# Altium integrated library TI_Logic_Flip-Flop,Latch,Register.IntLib: 2598 symbols (part 19 of 122)
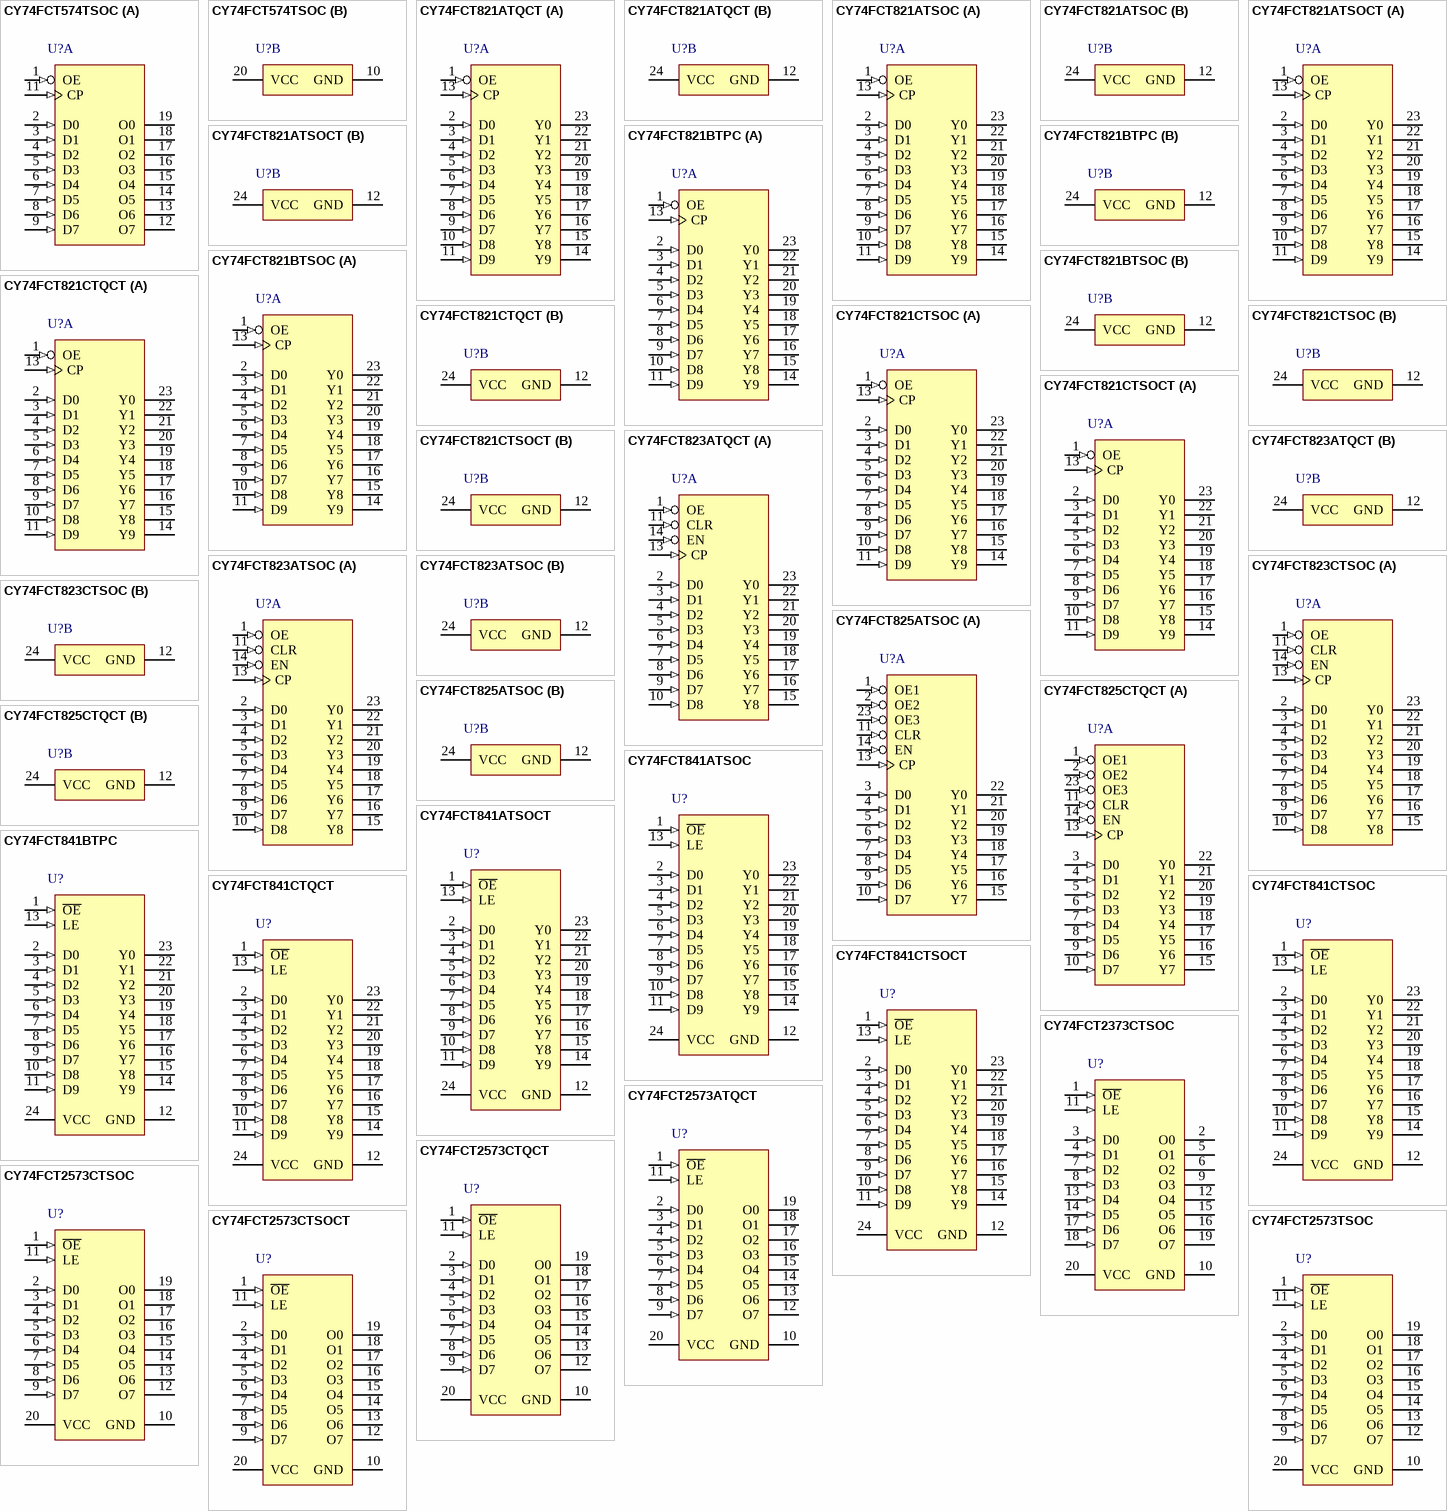
[diagram p157: symbols CY74FCT574TSOC to CY74FCT2573TSOC]

## CY74FCT821ATSOC
designator U?
10-Bit Bus Interface Flip-Flops with 3-State Outputs, DW0024A, TUBE; Generic Part Number: CY74FCT821T; Manufacturer: Texas Instruments; PartNumber: CY74FCT821ATSOC; VCC(Min)(V): 4.75; VCC(Max)(V): 5.25; Output Type: CMOS; ICC @ Nom Voltage(Max)(mA): 0.2; Input Type: TTL; Bits(#): 10; F @ Nom Voltage(Max)(Mhz): 70; Rating: Catalog; Technology Family: FCT; Voltage(Nom)(V): 5; Schmitt Trigger: No; Output Drive (IOL/IOH)(Max)(mA): 64/-32; DatasheetVersion: SCCS033B; PackageReference: DW0024A; Supplier 1: Digi-Key; Supplier Part Number 1: 296-33246-5-ND; Supplier 2: Mouser; Supplier Part Number 2: 595-CY74FCT821ATSOC; Operating Temperature Range(C): -40 to 85; tpd @ Nom Voltage(Max)(ns): 10; Code_JEDEC: MS-013; ComponentLink1Description: Manufacturer URL; ComponentLink1URL: http://www.ti.com/; ComponentLink2Description: Datasheet; ComponentLink2URL: http://www.ti.com/lit/ds/symlink/cy74fct821t.pdf; ComponentLink3Description: Package Specification; ComponentLink3URL: http://www.ti.com/lit/ml/mpds174a/mpds174a.pdf
footprint DW0024A_N (SOIC, 24-Leads, Body 15.6x7.6mm, Pitch 1.27mm, IPC Medium Density)
footprint DW0024A_M (SOIC, 24-Leads, Body 15.6x7.6mm, Pitch 1.27mm, IPC Low Density)
footprint DW0024A_L (SOIC, 24-Leads, Body 15.6x7.6mm, Pitch 1.27mm, IPC High Density)
part A pins: 1 OE (in) "Output control. When O\E\ is high, the Y outputs are in the high-impedance state. When O\E\ is low, true register data is present at the Y outputs.", 2 D0 (in) "D flip-flop data inputs", 3 D1 (in) "D flip-flop data inputs", 4 D2 (in) "D flip-flop data inputs", 5 D3 (in) "D flip-flop data inputs", 6 D4 (in) "D flip-flop data inputs", 7 D5 (in) "D flip-flop data inputs", 8 D6 (in) "D flip-flop data inputs", 9 D7 (in) "D flip-flop data inputs", 10 D8 (in) "D flip-flop data inputs", 11 D9 (in) "D flip-flop data inputs", 13 CP (in) "Clock pulse for the register. Enters data into the register on the low-to-high clock transition.", 14 Y9 (hiz) "Register 3-state outputs", 15 Y8 (hiz) "Register 3-state outputs", 16 Y7 (hiz) "Register 3-state outputs", 17 Y6 (hiz) "Register 3-state outputs", 18 Y5 (hiz) "Register 3-state outputs", 19 Y4 (hiz) "Register 3-state outputs", 20 Y3 (hiz) "Register 3-state outputs", 21 Y2 (hiz) "Register 3-state outputs", 22 Y1 (hiz) "Register 3-state outputs", 23 Y0 (hiz) "Register 3-state outputs"
part B pins: 12 GND (power), 24 VCC (power)

## CY74FCT821ATSOCT
designator U?
10-Bit Bus Interface Flip-Flops with 3-State Outputs, DW0024A, LARGE T&R; Generic Part Number: CY74FCT821T; Manufacturer: Texas Instruments; PartNumber: CY74FCT821ATSOCT; VCC(Min)(V): 4.75; VCC(Max)(V): 5.25; Output Type: CMOS; ICC @ Nom Voltage(Max)(mA): 0.2; Input Type: TTL; Bits(#): 10; F @ Nom Voltage(Max)(Mhz): 70; Rating: Catalog; Technology Family: FCT; Voltage(Nom)(V): 5; Schmitt Trigger: No; Output Drive (IOL/IOH)(Max)(mA): 64/-32; DatasheetVersion: SCCS033B; PackageReference: DW0024A; Supplier 1: Digi-Key; Supplier Part Number 1: CY74FCT821ATSOCT-ND; Supplier 2: Mouser; Supplier Part Number 2: 595-CY74FCT821ATSOCT; Operating Temperature Range(C): -40 to 85; tpd @ Nom Voltage(Max)(ns): 10; Code_JEDEC: MS-013; ComponentLink1Description: Manufacturer URL; ComponentLink1URL: http://www.ti.com/; ComponentLink2Description: Datasheet; ComponentLink2URL: http://www.ti.com/lit/ds/symlink/cy74fct821t.pdf; ComponentLink3Description: Package Specification; ComponentLink3URL: http://www.ti.com/lit/ml/mpds174a/mpds174a.pdf
footprint DW0024A_N (SOIC, 24-Leads, Body 15.6x7.6mm, Pitch 1.27mm, IPC Medium Density)
footprint DW0024A_M (SOIC, 24-Leads, Body 15.6x7.6mm, Pitch 1.27mm, IPC Low Density)
footprint DW0024A_L (SOIC, 24-Leads, Body 15.6x7.6mm, Pitch 1.27mm, IPC High Density)
part A pins: 1 OE (in) "Output control. When O\E\ is high, the Y outputs are in the high-impedance state. When O\E\ is low, true register data is present at the Y outputs.", 2 D0 (in) "D flip-flop data inputs", 3 D1 (in) "D flip-flop data inputs", 4 D2 (in) "D flip-flop data inputs", 5 D3 (in) "D flip-flop data inputs", 6 D4 (in) "D flip-flop data inputs", 7 D5 (in) "D flip-flop data inputs", 8 D6 (in) "D flip-flop data inputs", 9 D7 (in) "D flip-flop data inputs", 10 D8 (in) "D flip-flop data inputs", 11 D9 (in) "D flip-flop data inputs", 13 CP (in) "Clock pulse for the register. Enters data into the register on the low-to-high clock transition.", 14 Y9 (hiz) "Register 3-state outputs", 15 Y8 (hiz) "Register 3-state outputs", 16 Y7 (hiz) "Register 3-state outputs", 17 Y6 (hiz) "Register 3-state outputs", 18 Y5 (hiz) "Register 3-state outputs", 19 Y4 (hiz) "Register 3-state outputs", 20 Y3 (hiz) "Register 3-state outputs", 21 Y2 (hiz) "Register 3-state outputs", 22 Y1 (hiz) "Register 3-state outputs", 23 Y0 (hiz) "Register 3-state outputs"
part B pins: 12 GND (power), 24 VCC (power)

## CY74FCT821BTPC
designator U?
10-Bit Bus Interface Flip-Flops with 3-State Outputs, NT0024A, TUBE; Generic Part Number: CY74FCT821T; Manufacturer: Texas Instruments; PartNumber: CY74FCT821BTPC; VCC(Min)(V): 4.75; VCC(Max)(V): 5.25; Output Type: CMOS; ICC @ Nom Voltage(Max)(mA): 0.2; Input Type: TTL; Bits(#): 10; F @ Nom Voltage(Max)(Mhz): 70; Rating: Catalog; Technology Family: FCT; Voltage(Nom)(V): 5; Schmitt Trigger: No; Output Drive (IOL/IOH)(Max)(mA): 64/-32; tpd @ Nom Voltage(Max)(ns): 7.5; DatasheetVersion: SCCS033B; PackageReference: NT0024A; Supplier 1: Digi-Key; Supplier Part Number 1: 296-14584-5-ND; Supplier 2: Newark; Supplier Part Number 2: 74C9079; Supplier 3: Mouser; Supplier Part Number 3: 595-CY74FCT821BTPC; Operating Temperature Range(C): -40 to 85; ComponentLink1Description: Manufacturer URL; ComponentLink1URL: http://www.ti.com/; ComponentLink2Description: Datasheet; ComponentLink2URL: http://www.ti.com/lit/ds/symlink/cy74fct821t.pdf; ComponentLink3Description: Package Specification; ComponentLink3URL: http://www.ti.com/lit/ml/mpdi004a/mpdi004a.pdf
footprint NT0024A (DIP, 24-Leads, Body 32.05x7.1mm, Pitch 2.54mm)
part A pins: 1 OE (in) "Output control. When O\E\ is high, the Y outputs are in the high-impedance state. When O\E\ is low, true register data is present at the Y outputs.", 2 D0 (in) "D flip-flop data inputs", 3 D1 (in) "D flip-flop data inputs", 4 D2 (in) "D flip-flop data inputs", 5 D3 (in) "D flip-flop data inputs", 6 D4 (in) "D flip-flop data inputs", 7 D5 (in) "D flip-flop data inputs", 8 D6 (in) "D flip-flop data inputs", 9 D7 (in) "D flip-flop data inputs", 10 D8 (in) "D flip-flop data inputs", 11 D9 (in) "D flip-flop data inputs", 13 CP (in) "Clock pulse for the register. Enters data into the register on the low-to-high clock transition.", 14 Y9 (hiz) "Register 3-state outputs", 15 Y8 (hiz) "Register 3-state outputs", 16 Y7 (hiz) "Register 3-state outputs", 17 Y6 (hiz) "Register 3-state outputs", 18 Y5 (hiz) "Register 3-state outputs", 19 Y4 (hiz) "Register 3-state outputs", 20 Y3 (hiz) "Register 3-state outputs", 21 Y2 (hiz) "Register 3-state outputs", 22 Y1 (hiz) "Register 3-state outputs", 23 Y0 (hiz) "Register 3-state outputs"
part B pins: 12 GND (power), 24 VCC (power)

## CY74FCT821BTSOC
designator U?
10-Bit Bus Interface Flip-Flops with 3-State Outputs, DW0024A, TUBE; Generic Part Number: CY74FCT821T; Manufacturer: Texas Instruments; PartNumber: CY74FCT821BTSOC; VCC(Min)(V): 4.75; VCC(Max)(V): 5.25; Output Type: CMOS; ICC @ Nom Voltage(Max)(mA): 0.2; Input Type: TTL; Bits(#): 10; F @ Nom Voltage(Max)(Mhz): 70; Rating: Catalog; Technology Family: FCT; Voltage(Nom)(V): 5; Schmitt Trigger: No; Output Drive (IOL/IOH)(Max)(mA): 64/-32; tpd @ Nom Voltage(Max)(ns): 7.5; DatasheetVersion: SCCS033B; PackageReference: DW0024A; Supplier 1: Digi-Key; Supplier Part Number 1: CY74FCT821BTSOC-ND; Supplier 2: Mouser; Supplier Part Number 2: 595-CY74FCT821BTSOC; Operating Temperature Range(C): -40 to 85; Code_JEDEC: MS-013; ComponentLink1Description: Manufacturer URL; ComponentLink1URL: http://www.ti.com/; ComponentLink2Description: Datasheet; ComponentLink2URL: http://www.ti.com/lit/ds/symlink/cy74fct821t.pdf; ComponentLink3Description: Package Specification; ComponentLink3URL: http://www.ti.com/lit/ml/mpds174a/mpds174a.pdf
footprint DW0024A_N (SOIC, 24-Leads, Body 15.6x7.6mm, Pitch 1.27mm, IPC Medium Density)
footprint DW0024A_M (SOIC, 24-Leads, Body 15.6x7.6mm, Pitch 1.27mm, IPC Low Density)
footprint DW0024A_L (SOIC, 24-Leads, Body 15.6x7.6mm, Pitch 1.27mm, IPC High Density)
part A pins: 1 OE (in) "Output control. When O\E\ is high, the Y outputs are in the high-impedance state. When O\E\ is low, true register data is present at the Y outputs.", 2 D0 (in) "D flip-flop data inputs", 3 D1 (in) "D flip-flop data inputs", 4 D2 (in) "D flip-flop data inputs", 5 D3 (in) "D flip-flop data inputs", 6 D4 (in) "D flip-flop data inputs", 7 D5 (in) "D flip-flop data inputs", 8 D6 (in) "D flip-flop data inputs", 9 D7 (in) "D flip-flop data inputs", 10 D8 (in) "D flip-flop data inputs", 11 D9 (in) "D flip-flop data inputs", 13 CP (in) "Clock pulse for the register. Enters data into the register on the low-to-high clock transition.", 14 Y9 (hiz) "Register 3-state outputs", 15 Y8 (hiz) "Register 3-state outputs", 16 Y7 (hiz) "Register 3-state outputs", 17 Y6 (hiz) "Register 3-state outputs", 18 Y5 (hiz) "Register 3-state outputs", 19 Y4 (hiz) "Register 3-state outputs", 20 Y3 (hiz) "Register 3-state outputs", 21 Y2 (hiz) "Register 3-state outputs", 22 Y1 (hiz) "Register 3-state outputs", 23 Y0 (hiz) "Register 3-state outputs"
part B pins: 12 GND (power), 24 VCC (power)

## CY74FCT821CTQCT
designator U?
10-Bit Bus Interface Flip-Flops with 3-State Outputs, DBQ0024A, LARGE T&R; Generic Part Number: CY74FCT821T; Manufacturer: Texas Instruments; PartNumber: CY74FCT821CTQCT; VCC(Min)(V): 4.75; VCC(Max)(V): 5.25; Output Type: CMOS; ICC @ Nom Voltage(Max)(mA): 0.2; Input Type: TTL; Bits(#): 10; F @ Nom Voltage(Max)(Mhz): 70; Rating: Catalog; Technology Family: FCT; Voltage(Nom)(V): 5; Schmitt Trigger: No; Output Drive (IOL/IOH)(Max)(mA): 64/-32; tpd @ Nom Voltage(Max)(ns): 6; DatasheetVersion: SCCS033B; PackageReference: DBQ0024A; Supplier 1: Digi-Key; Supplier Part Number 1: 296-14585-2-ND; Supplier 2: Digi-Key; Supplier Part Number 2: 296-14585-1-ND; Supplier 3: Digi-Key; Supplier Part Number 3: 296-14585-6-ND; Supplier 4: Mouser; Supplier Part Number 4: 595-CY74FCT821CTQCT; Operating Temperature Range(C): -40 to 85; Code_JEDEC: MO-137; ComponentLink1Description: Manufacturer URL; ComponentLink1URL: http://www.ti.com/; ComponentLink2Description: Datasheet; ComponentLink2URL: http://www.ti.com/lit/ds/symlink/cy74fct821t.pdf; ComponentLink3Description: Package Specification; ComponentLink3URL: http://www.ti.com/lit/ml/mpds211a/mpds211a.pdf
footprint DBQ0024A_N (SOP, 24-Leads, Body 8.8x4mm, Pitch 0.635mm, IPC Medium Density)
footprint DBQ0024A_M (SOP, 24-Leads, Body 8.8x4mm, Pitch 0.635mm, IPC Low Density)
footprint DBQ0024A_L (SOP, 24-Leads, Body 8.8x4mm, Pitch 0.635mm, IPC High Density)
part A pins: 1 OE (in) "Output control. When O\E\ is high, the Y outputs are in the high-impedance state. When O\E\ is low, true register data is present at the Y outputs.", 2 D0 (in) "D flip-flop data inputs", 3 D1 (in) "D flip-flop data inputs", 4 D2 (in) "D flip-flop data inputs", 5 D3 (in) "D flip-flop data inputs", 6 D4 (in) "D flip-flop data inputs", 7 D5 (in) "D flip-flop data inputs", 8 D6 (in) "D flip-flop data inputs", 9 D7 (in) "D flip-flop data inputs", 10 D8 (in) "D flip-flop data inputs", 11 D9 (in) "D flip-flop data inputs", 13 CP (in) "Clock pulse for the register. Enters data into the register on the low-to-high clock transition.", 14 Y9 (hiz) "Register 3-state outputs", 15 Y8 (hiz) "Register 3-state outputs", 16 Y7 (hiz) "Register 3-state outputs", 17 Y6 (hiz) "Register 3-state outputs", 18 Y5 (hiz) "Register 3-state outputs", 19 Y4 (hiz) "Register 3-state outputs", 20 Y3 (hiz) "Register 3-state outputs", 21 Y2 (hiz) "Register 3-state outputs", 22 Y1 (hiz) "Register 3-state outputs", 23 Y0 (hiz) "Register 3-state outputs"
part B pins: 12 GND (power), 24 VCC (power)

## CY74FCT821CTSOC
designator U?
10-Bit Bus Interface Flip-Flops with 3-State Outputs, DW0024A, TUBE; Generic Part Number: CY74FCT821T; Manufacturer: Texas Instruments; PartNumber: CY74FCT821CTSOC; VCC(Min)(V): 4.75; VCC(Max)(V): 5.25; Output Type: CMOS; ICC @ Nom Voltage(Max)(mA): 0.2; Input Type: TTL; Bits(#): 10; F @ Nom Voltage(Max)(Mhz): 70; Rating: Catalog; Technology Family: FCT; Voltage(Nom)(V): 5; Schmitt Trigger: No; Output Drive (IOL/IOH)(Max)(mA): 64/-32; tpd @ Nom Voltage(Max)(ns): 6; DatasheetVersion: SCCS033B; PackageReference: DW0024A; Supplier 1: Digi-Key; Supplier Part Number 1: CY74FCT821CTSOC-ND; Supplier 2: Newark; Supplier Part Number 2: 74C9083; Supplier 3: Mouser; Supplier Part Number 3: 595-CY74FCT821CTSOC; Operating Temperature Range(C): -40 to 85; Code_JEDEC: MS-013; ComponentLink1Description: Manufacturer URL; ComponentLink1URL: http://www.ti.com/; ComponentLink2Description: Datasheet; ComponentLink2URL: http://www.ti.com/lit/ds/symlink/cy74fct821t.pdf; ComponentLink3Description: Package Specification; ComponentLink3URL: http://www.ti.com/lit/ml/mpds174a/mpds174a.pdf
footprint DW0024A_N (SOIC, 24-Leads, Body 15.6x7.6mm, Pitch 1.27mm, IPC Medium Density)
footprint DW0024A_M (SOIC, 24-Leads, Body 15.6x7.6mm, Pitch 1.27mm, IPC Low Density)
footprint DW0024A_L (SOIC, 24-Leads, Body 15.6x7.6mm, Pitch 1.27mm, IPC High Density)
part A pins: 1 OE (in) "Output control. When O\E\ is high, the Y outputs are in the high-impedance state. When O\E\ is low, true register data is present at the Y outputs.", 2 D0 (in) "D flip-flop data inputs", 3 D1 (in) "D flip-flop data inputs", 4 D2 (in) "D flip-flop data inputs", 5 D3 (in) "D flip-flop data inputs", 6 D4 (in) "D flip-flop data inputs", 7 D5 (in) "D flip-flop data inputs", 8 D6 (in) "D flip-flop data inputs", 9 D7 (in) "D flip-flop data inputs", 10 D8 (in) "D flip-flop data inputs", 11 D9 (in) "D flip-flop data inputs", 13 CP (in) "Clock pulse for the register. Enters data into the register on the low-to-high clock transition.", 14 Y9 (hiz) "Register 3-state outputs", 15 Y8 (hiz) "Register 3-state outputs", 16 Y7 (hiz) "Register 3-state outputs", 17 Y6 (hiz) "Register 3-state outputs", 18 Y5 (hiz) "Register 3-state outputs", 19 Y4 (hiz) "Register 3-state outputs", 20 Y3 (hiz) "Register 3-state outputs", 21 Y2 (hiz) "Register 3-state outputs", 22 Y1 (hiz) "Register 3-state outputs", 23 Y0 (hiz) "Register 3-state outputs"
part B pins: 12 GND (power), 24 VCC (power)

## CY74FCT821CTSOCT
designator U?
10-Bit Bus Interface Flip-Flops with 3-State Outputs, DW0024A, LARGE T&R; Generic Part Number: CY74FCT821T; Manufacturer: Texas Instruments; PartNumber: CY74FCT821CTSOCT; VCC(Min)(V): 4.75; VCC(Max)(V): 5.25; Output Type: CMOS; ICC @ Nom Voltage(Max)(mA): 0.2; Input Type: TTL; Bits(#): 10; F @ Nom Voltage(Max)(Mhz): 70; Rating: Catalog; Technology Family: FCT; Voltage(Nom)(V): 5; Schmitt Trigger: No; Output Drive (IOL/IOH)(Max)(mA): 64/-32; tpd @ Nom Voltage(Max)(ns): 6; DatasheetVersion: SCCS033B; PackageReference: DW0024A; Supplier 1: Digi-Key; Supplier Part Number 1: CY74FCT821CTSOCT-ND; Supplier 2: Mouser; Supplier Part Number 2: 595-CY74FCT821CTSOCT; Operating Temperature Range(C): -40 to 85; Code_JEDEC: MS-013; ComponentLink1Description: Manufacturer URL; ComponentLink1URL: http://www.ti.com/; ComponentLink2Description: Datasheet; ComponentLink2URL: http://www.ti.com/lit/ds/symlink/cy74fct821t.pdf; ComponentLink3Description: Package Specification; ComponentLink3URL: http://www.ti.com/lit/ml/mpds174a/mpds174a.pdf
footprint DW0024A_N (SOIC, 24-Leads, Body 15.6x7.6mm, Pitch 1.27mm, IPC Medium Density)
footprint DW0024A_M (SOIC, 24-Leads, Body 15.6x7.6mm, Pitch 1.27mm, IPC Low Density)
footprint DW0024A_L (SOIC, 24-Leads, Body 15.6x7.6mm, Pitch 1.27mm, IPC High Density)
part A pins: 1 OE (in) "Output control. When O\E\ is high, the Y outputs are in the high-impedance state. When O\E\ is low, true register data is present at the Y outputs.", 2 D0 (in) "D flip-flop data inputs", 3 D1 (in) "D flip-flop data inputs", 4 D2 (in) "D flip-flop data inputs", 5 D3 (in) "D flip-flop data inputs", 6 D4 (in) "D flip-flop data inputs", 7 D5 (in) "D flip-flop data inputs", 8 D6 (in) "D flip-flop data inputs", 9 D7 (in) "D flip-flop data inputs", 10 D8 (in) "D flip-flop data inputs", 11 D9 (in) "D flip-flop data inputs", 13 CP (in) "Clock pulse for the register. Enters data into the register on the low-to-high clock transition.", 14 Y9 (hiz) "Register 3-state outputs", 15 Y8 (hiz) "Register 3-state outputs", 16 Y7 (hiz) "Register 3-state outputs", 17 Y6 (hiz) "Register 3-state outputs", 18 Y5 (hiz) "Register 3-state outputs", 19 Y4 (hiz) "Register 3-state outputs", 20 Y3 (hiz) "Register 3-state outputs", 21 Y2 (hiz) "Register 3-state outputs", 22 Y1 (hiz) "Register 3-state outputs", 23 Y0 (hiz) "Register 3-state outputs"
part B pins: 12 GND (power), 24 VCC (power)

## CY74FCT823ATQCT
designator U?
9-Bit Bus Interface Flip-Flops with 3-State Outputs, DBQ0024A, LARGE T&R; Generic Part Number: CY74FCT823T; Manufacturer: Texas Instruments; PartNumber: CY74FCT823ATQCT; VCC(Min)(V): 4.75; VCC(Max)(V): 5.25; Output Type: CMOS; ICC @ Nom Voltage(Max)(mA): 0.2; Input Type: TTL; Bits(#): 9; F @ Nom Voltage(Max)(Mhz): 70; Rating: Catalog; Technology Family: FCT; Voltage(Nom)(V): 5; Schmitt Trigger: No; Output Drive (IOL/IOH)(Max)(mA): 64/-32; tpd @ Nom Voltage(Max)(ns): 10; DatasheetVersion: SCCS069A; PackageReference: DBQ0024A; Supplier 1: Digi-Key; Supplier Part Number 1: 296-38081-2-ND; Supplier 2: Digi-Key; Supplier Part Number 2: 296-38081-1-ND; Supplier 3: Digi-Key; Supplier Part Number 3: 296-38081-6-ND; Supplier 4: Mouser; Supplier Part Number 4: 595-CY74FCT823ATQCT; Operating Temperature Range(C): -40 to 85; Code_JEDEC: MO-137; ComponentLink1Description: Manufacturer URL; ComponentLink1URL: http://www.ti.com/; ComponentLink2Description: Datasheet; ComponentLink2URL: http://www.ti.com/lit/ds/symlink/cy74fct823t.pdf; ComponentLink3Description: Package Specification; ComponentLink3URL: http://www.ti.com/lit/ml/mpds211a/mpds211a.pdf
footprint DBQ0024A_N (SOP, 24-Leads, Body 8.8x4mm, Pitch 0.635mm, IPC Medium Density)
footprint DBQ0024A_M (SOP, 24-Leads, Body 8.8x4mm, Pitch 0.635mm, IPC Low Density)
footprint DBQ0024A_L (SOP, 24-Leads, Body 8.8x4mm, Pitch 0.635mm, IPC High Density)
part A pins: 1 OE (in) "Output control. When O\E\ is high, the Y outputs are in the high-impedance state. When O\E\ is low, true register data is present at the Y outputs.", 2 D0 (in) "D flip-flop data inputs", 3 D1 (in) "D flip-flop data inputs", 4 D2 (in) "D flip-flop data inputs", 5 D3 (in) "D flip-flop data inputs", 6 D4 (in) "D flip-flop data inputs", 7 D5 (in) "D flip-flop data inputs", 8 D6 (in) "D flip-flop data inputs", 9 D7 (in) "D flip-flop data inputs", 10 D8 (in) "D flip-flop data inputs", 11 CLR (in) "When C\L\R\ is low and O\E\ is low, Q outputs are low. When C\L\R\ is high, data can be entered into the register.", 13 CP (in) "Clock pulse for the register. Enters data into the register on the low-to-high clock transition.", 14 EN (in) "Clock enable. When E\N\ is low, data on the D input is transferred to the Q output on the low-to-high clock transition. When E\N\ is high, the Q outputs do not change state, regardless of the data or clock input transitions.", 15 Y8 (hiz) "Register 3-state outputs", 16 Y7 (hiz) "Register 3-state outputs", 17 Y6 (hiz) "Register 3-state outputs", 18 Y5 (hiz) "Register 3-state outputs", 19 Y4 (hiz) "Register 3-state outputs", 20 Y3 (hiz) "Register 3-state outputs", 21 Y2 (hiz) "Register 3-state outputs", 22 Y1 (hiz) "Register 3-state outputs", 23 Y0 (hiz) "Register 3-state outputs"
part B pins: 12 GND (power), 24 VCC (power)

## CY74FCT823ATSOC
designator U?
9-Bit Bus Interface Flip-Flops with 3-State Outputs, DW0024A, TUBE; Generic Part Number: CY74FCT823T; Manufacturer: Texas Instruments; PartNumber: CY74FCT823ATSOC; VCC(Min)(V): 4.75; VCC(Max)(V): 5.25; Output Type: CMOS; ICC @ Nom Voltage(Max)(mA): 0.2; Input Type: TTL; Bits(#): 9; F @ Nom Voltage(Max)(Mhz): 70; Rating: Catalog; Technology Family: FCT; Voltage(Nom)(V): 5; Schmitt Trigger: No; Output Drive (IOL/IOH)(Max)(mA): 64/-32; tpd @ Nom Voltage(Max)(ns): 10; DatasheetVersion: SCCS069A; PackageReference: DW0024A; Supplier 1: Digi-Key; Supplier Part Number 1: CY74FCT823ATSOC-ND; Supplier 2: Farnell; Supplier Part Number 2: 1741089; Supplier 3: Mouser; Supplier Part Number 3: 595-CY74FCT823ATSOC; Operating Temperature Range(C): -40 to 85; Code_JEDEC: MS-013; ComponentLink1Description: Manufacturer URL; ComponentLink1URL: http://www.ti.com/; ComponentLink2Description: Datasheet; ComponentLink2URL: http://www.ti.com/lit/ds/symlink/cy74fct823t.pdf; ComponentLink3Description: Package Specification; ComponentLink3URL: http://www.ti.com/lit/ml/mpds174a/mpds174a.pdf
footprint DW0024A_N (SOIC, 24-Leads, Body 15.6x7.6mm, Pitch 1.27mm, IPC Medium Density)
footprint DW0024A_M (SOIC, 24-Leads, Body 15.6x7.6mm, Pitch 1.27mm, IPC Low Density)
footprint DW0024A_L (SOIC, 24-Leads, Body 15.6x7.6mm, Pitch 1.27mm, IPC High Density)
part A pins: 1 OE (in) "Output control. When O\E\ is high, the Y outputs are in the high-impedance state. When O\E\ is low, true register data is present at the Y outputs.", 2 D0 (in) "D flip-flop data inputs", 3 D1 (in) "D flip-flop data inputs", 4 D2 (in) "D flip-flop data inputs", 5 D3 (in) "D flip-flop data inputs", 6 D4 (in) "D flip-flop data inputs", 7 D5 (in) "D flip-flop data inputs", 8 D6 (in) "D flip-flop data inputs", 9 D7 (in) "D flip-flop data inputs", 10 D8 (in) "D flip-flop data inputs", 11 CLR (in) "When C\L\R\ is low and O\E\ is low, Q outputs are low. When C\L\R\ is high, data can be entered into the register.", 13 CP (in) "Clock pulse for the register. Enters data into the register on the low-to-high clock transition.", 14 EN (in) "Clock enable. When E\N\ is low, data on the D input is transferred to the Q output on the low-to-high clock transition. When E\N\ is high, the Q outputs do not change state, regardless of the data or clock input transitions.", 15 Y8 (hiz) "Register 3-state outputs", 16 Y7 (hiz) "Register 3-state outputs", 17 Y6 (hiz) "Register 3-state outputs", 18 Y5 (hiz) "Register 3-state outputs", 19 Y4 (hiz) "Register 3-state outputs", 20 Y3 (hiz) "Register 3-state outputs", 21 Y2 (hiz) "Register 3-state outputs", 22 Y1 (hiz) "Register 3-state outputs", 23 Y0 (hiz) "Register 3-state outputs"
part B pins: 12 GND (power), 24 VCC (power)

## CY74FCT823CTSOC
designator U?
9-Bit Bus Interface Flip-Flops with 3-State Outputs, DW0024A, TUBE; Generic Part Number: CY74FCT823T; Manufacturer: Texas Instruments; PartNumber: CY74FCT823CTSOC; VCC(Min)(V): 4.75; VCC(Max)(V): 5.25; Output Type: CMOS; ICC @ Nom Voltage(Max)(mA): 0.2; Input Type: TTL; Bits(#): 9; F @ Nom Voltage(Max)(Mhz): 70; Rating: Catalog; Technology Family: FCT; Voltage(Nom)(V): 5; Schmitt Trigger: No; Output Drive (IOL/IOH)(Max)(mA): 64/-32; tpd @ Nom Voltage(Max)(ns): 6; DatasheetVersion: SCCS069A; PackageReference: DW0024A; Supplier 1: Digi-Key; Supplier Part Number 1: CY74FCT823CTSOC-ND; Supplier 2: Mouser; Supplier Part Number 2: 595-CY74FCT823CTSOC; Operating Temperature Range(C): -40 to 85; Code_JEDEC: MS-013; ComponentLink1Description: Manufacturer URL; ComponentLink1URL: http://www.ti.com/; ComponentLink2Description: Datasheet; ComponentLink2URL: http://www.ti.com/lit/ds/symlink/cy74fct823t.pdf; ComponentLink3Description: Package Specification; ComponentLink3URL: http://www.ti.com/lit/ml/mpds174a/mpds174a.pdf
footprint DW0024A_N (SOIC, 24-Leads, Body 15.6x7.6mm, Pitch 1.27mm, IPC Medium Density)
footprint DW0024A_M (SOIC, 24-Leads, Body 15.6x7.6mm, Pitch 1.27mm, IPC Low Density)
footprint DW0024A_L (SOIC, 24-Leads, Body 15.6x7.6mm, Pitch 1.27mm, IPC High Density)
part A pins: 1 OE (in) "Output control. When O\E\ is high, the Y outputs are in the high-impedance state. When O\E\ is low, true register data is present at the Y outputs.", 2 D0 (in) "D flip-flop data inputs", 3 D1 (in) "D flip-flop data inputs", 4 D2 (in) "D flip-flop data inputs", 5 D3 (in) "D flip-flop data inputs", 6 D4 (in) "D flip-flop data inputs", 7 D5 (in) "D flip-flop data inputs", 8 D6 (in) "D flip-flop data inputs", 9 D7 (in) "D flip-flop data inputs", 10 D8 (in) "D flip-flop data inputs", 11 CLR (in) "When C\L\R\ is low and O\E\ is low, Q outputs are low. When C\L\R\ is high, data can be entered into the register.", 13 CP (in) "Clock pulse for the register. Enters data into the register on the low-to-high clock transition.", 14 EN (in) "Clock enable. When E\N\ is low, data on the D input is transferred to the Q output on the low-to-high clock transition. When E\N\ is high, the Q outputs do not change state, regardless of the data or clock input transitions.", 15 Y8 (hiz) "Register 3-state outputs", 16 Y7 (hiz) "Register 3-state outputs", 17 Y6 (hiz) "Register 3-state outputs", 18 Y5 (hiz) "Register 3-state outputs", 19 Y4 (hiz) "Register 3-state outputs", 20 Y3 (hiz) "Register 3-state outputs", 21 Y2 (hiz) "Register 3-state outputs", 22 Y1 (hiz) "Register 3-state outputs", 23 Y0 (hiz) "Register 3-state outputs"
part B pins: 12 GND (power), 24 VCC (power)

## CY74FCT825ATSOC
designator U?
8-Bit Bus Interface Flip-Flops with 3-State Outputs, DW0024A, TUBE; Generic Part Number: CY74FCT825T; Manufacturer: Texas Instruments; PartNumber: CY74FCT825ATSOC; DatasheetVersion: SCCS070A; PackageReference: DW0024A; Supplier 1: Digi-Key; Supplier Part Number 1: 296-33247-5-ND; Supplier 2: Mouser; Supplier Part Number 2: 595-CY74FCT825ATSOC; Code_JEDEC: MS-013; ComponentLink1Description: Manufacturer URL; ComponentLink1URL: http://www.ti.com/; ComponentLink2Description: Datasheet; ComponentLink2URL: http://www.ti.com/lit/ds/symlink/cy74fct825t.pdf; ComponentLink3Description: Package Specification; ComponentLink3URL: http://www.ti.com/lit/ml/mpds174a/mpds174a.pdf
footprint DW0024A_N (SOIC, 24-Leads, Body 15.6x7.6mm, Pitch 1.27mm, IPC Medium Density)
footprint DW0024A_M (SOIC, 24-Leads, Body 15.6x7.6mm, Pitch 1.27mm, IPC Low Density)
footprint DW0024A_L (SOIC, 24-Leads, Body 15.6x7.6mm, Pitch 1.27mm, IPC High Density)
part A pins: 1 OE1 (in) "Output control. When O\E\ is high, the Y outputs are in the high-impedance state. When O\E\ is low, true register data is present at the Y outputs.", 2 OE2 (in) "Output control. When O\E\ is high, the Y outputs are in the high-impedance state. When O\E\ is low, true register data is present at the Y outputs.", 3 D0 (in) "D flip-flop data inputs", 4 D1 (in) "D flip-flop data inputs", 5 D2 (in) "D flip-flop data inputs", 6 D3 (in) "D flip-flop data inputs", 7 D4 (in) "D flip-flop data inputs", 8 D5 (in) "D flip-flop data inputs", 9 D6 (in) "D flip-flop data inputs", 10 D7 (in) "D flip-flop data inputs", 11 CLR (in) "When C\L\R\ is low and O\E\ is low, Q outputs are low. When C\L\R\ is high, data can be entered into the register", 13 CP (in) "Clock pulse for the register. Enters data into the register on the low-to-high clock transition.", 14 EN (in) "Clock enable. When E\N\ is low, data on the D input is transferred to the Q output on the low-to-high clock transition. When E\N\ is high, the Q outputs do not change state, regardless of the data or clock input transitions.", 15 Y7 (hiz) "Register 3-state outputs", 16 Y6 (hiz) "Register 3-state outputs", 17 Y5 (hiz) "Register 3-state outputs", 18 Y4 (hiz) "Register 3-state outputs", 19 Y3 (hiz) "Register 3-state outputs", 20 Y2 (hiz) "Register 3-state outputs", 21 Y1 (hiz) "Register 3-state outputs", 22 Y0 (hiz) "Register 3-state outputs", 23 OE3 (in) "Output control. When O\E\ is high, the Y outputs are in the high-impedance state. When O\E\ is low, true register data is present at the Y outputs."
part B pins: 12 GND (power), 24 VCC (power)

## CY74FCT825CTQCT
designator U?
8-Bit Bus Interface Flip-Flops with 3-State Outputs, DBQ0024A, LARGE T&R; Generic Part Number: CY74FCT825T; Manufacturer: Texas Instruments; PartNumber: CY74FCT825CTQCT; VCC(Min)(V): 4.75; VCC(Max)(V): 5.25; Output Type: CMOS; ICC @ Nom Voltage(Max)(mA): 0.2; Input Type: TTL; Bits(#): 8; F @ Nom Voltage(Max)(Mhz): 70; Rating: Catalog; Technology Family: FCT; Voltage(Nom)(V): 5; Schmitt Trigger: No; Output Drive (IOL/IOH)(Max)(mA): 64/-32; tpd @ Nom Voltage(Max)(ns): 6; DatasheetVersion: SCCS070A; PackageReference: DBQ0024A; Supplier 1: Digi-Key; Supplier Part Number 1: 296-29571-2-ND; Supplier 2: Digi-Key; Supplier Part Number 2: 296-29571-1-ND; Supplier 3: Digi-Key; Supplier Part Number 3: 296-29571-6-ND; Supplier 4: Mouser; Supplier Part Number 4: 595-CY74FCT825CTQCT; Operating Temperature Range(C): -40 to 85; Code_JEDEC: MO-137; ComponentLink1Description: Manufacturer URL; ComponentLink1URL: http://www.ti.com/; ComponentLink2Description: Datasheet; ComponentLink2URL: http://www.ti.com/lit/ds/symlink/cy74fct825t.pdf; ComponentLink3Description: Package Specification; ComponentLink3URL: http://www.ti.com/lit/ml/mpds211a/mpds211a.pdf
footprint DBQ0024A_N (SOP, 24-Leads, Body 8.8x4mm, Pitch 0.635mm, IPC Medium Density)
footprint DBQ0024A_M (SOP, 24-Leads, Body 8.8x4mm, Pitch 0.635mm, IPC Low Density)
footprint DBQ0024A_L (SOP, 24-Leads, Body 8.8x4mm, Pitch 0.635mm, IPC High Density)
part A pins: 1 OE1 (in) "Output control. When O\E\ is high, the Y outputs are in the high-impedance state. When O\E\ is low, true register data is present at the Y outputs.", 2 OE2 (in) "Output control. When O\E\ is high, the Y outputs are in the high-impedance state. When O\E\ is low, true register data is present at the Y outputs.", 3 D0 (in) "D flip-flop data inputs", 4 D1 (in) "D flip-flop data inputs", 5 D2 (in) "D flip-flop data inputs", 6 D3 (in) "D flip-flop data inputs", 7 D4 (in) "D flip-flop data inputs", 8 D5 (in) "D flip-flop data inputs", 9 D6 (in) "D flip-flop data inputs", 10 D7 (in) "D flip-flop data inputs", 11 CLR (in) "When C\L\R\ is low and O\E\ is low, Q outputs are low. When C\L\R\ is high, data can be entered into the register", 13 CP (in) "Clock pulse for the register. Enters data into the register on the low-to-high clock transition.", 14 EN (in) "Clock enable. When E\N\ is low, data on the D input is transferred to the Q output on the low-to-high clock transition. When E\N\ is high, the Q outputs do not change state, regardless of the data or clock input transitions.", 15 Y7 (hiz) "Register 3-state outputs", 16 Y6 (hiz) "Register 3-state outputs", 17 Y5 (hiz) "Register 3-state outputs", 18 Y4 (hiz) "Register 3-state outputs", 19 Y3 (hiz) "Register 3-state outputs", 20 Y2 (hiz) "Register 3-state outputs", 21 Y1 (hiz) "Register 3-state outputs", 22 Y0 (hiz) "Register 3-state outputs", 23 OE3 (in) "Output control. When O\E\ is high, the Y outputs are in the high-impedance state. When O\E\ is low, true register data is present at the Y outputs."
part B pins: 12 GND (power), 24 VCC (power)

## CY74FCT841ATSOC
designator U?
10-Bit Bus-Interface D-Type Latches with 3-State Outputs, DW0024A, TUBE; Generic Part Number: CY74FCT841T; Manufacturer: Texas Instruments; PartNumber: CY74FCT841ATSOC; VCC(Min)(V): 4.75; VCC(Max)(V): 5.25; Output Type: CMOS; ICC @ Nom Voltage(Max)(mA): 0.2; Input Type: TTL; Bits(#): 10; F @ Nom Voltage(Max)(Mhz): 70; Rating: Catalog; Technology Family: FCT; Voltage(Nom)(V): 5; Schmitt Trigger: No; Output Drive (IOL/IOH)(Max)(mA): 64/-32; tpd @ Nom Voltage(Max)(ns): 9; DatasheetVersion: SCCS035A; PackageReference: DW0024A; Supplier 1: Digi-Key; Supplier Part Number 1: CY74FCT841ATSOC-ND; Supplier 2: Mouser; Supplier Part Number 2: 595-CY74FCT841ATSOC; Operating Temperature Range(C): -40 to 85; Code_JEDEC: MS-013; ComponentLink1Description: Manufacturer URL; ComponentLink1URL: http://www.ti.com/; ComponentLink2Description: Datasheet; ComponentLink2URL: http://www.ti.com/lit/ds/symlink/cy74fct841t.pdf; ComponentLink3Description: Package Specification; ComponentLink3URL: http://www.ti.com/lit/ml/mpds174a/mpds174a.pdf
footprint DW0024A_N (SOIC, 24-Leads, Body 15.6x7.6mm, Pitch 1.27mm, IPC Medium Density)
footprint DW0024A_M (SOIC, 24-Leads, Body 15.6x7.6mm, Pitch 1.27mm, IPC Low Density)
footprint DW0024A_L (SOIC, 24-Leads, Body 15.6x7.6mm, Pitch 1.27mm, IPC High Density)
pins: 1 ~{OE} (in), 2 D0 (in), 3 D1 (in), 4 D2 (in), 5 D3 (in), 6 D4 (in), 7 D5 (in), 8 D6 (in), 9 D7 (in), 10 D8 (in), 11 D9 (in), 12 GND (power), 13 LE (in), 14 Y9 (hiz), 15 Y8 (hiz), 16 Y7 (hiz), 17 Y6 (hiz), 18 Y5 (hiz), 19 Y4 (hiz), 20 Y3 (hiz), 21 Y2 (hiz), 22 Y1 (hiz), 23 Y0 (hiz), 24 VCC (power)

## CY74FCT841ATSOCT
designator U?
10-Bit Bus-Interface D-Type Latches with 3-State Outputs, DW0024A, LARGE T&R; Generic Part Number: CY74FCT841T; Manufacturer: Texas Instruments; PartNumber: CY74FCT841ATSOCT; VCC(Min)(V): 4.75; VCC(Max)(V): 5.25; Output Type: CMOS; ICC @ Nom Voltage(Max)(mA): 0.2; Input Type: TTL; Bits(#): 10; F @ Nom Voltage(Max)(Mhz): 70; Rating: Catalog; Technology Family: FCT; Voltage(Nom)(V): 5; Schmitt Trigger: No; Output Drive (IOL/IOH)(Max)(mA): 64/-32; tpd @ Nom Voltage(Max)(ns): 9; DatasheetVersion: SCCS035A; PackageReference: DW0024A; Supplier 1: Digi-Key; Supplier Part Number 1: CY74FCT841ATSOCT-ND; Supplier 2: Mouser; Supplier Part Number 2: 595-CY74FCT841ATSOCT; Operating Temperature Range(C): -40 to 85; Code_JEDEC: MS-013; ComponentLink1Description: Manufacturer URL; ComponentLink1URL: http://www.ti.com/; ComponentLink2Description: Datasheet; ComponentLink2URL: http://www.ti.com/lit/ds/symlink/cy74fct841t.pdf; ComponentLink3Description: Package Specification; ComponentLink3URL: http://www.ti.com/lit/ml/mpds174a/mpds174a.pdf
footprint DW0024A_N (SOIC, 24-Leads, Body 15.6x7.6mm, Pitch 1.27mm, IPC Medium Density)
footprint DW0024A_M (SOIC, 24-Leads, Body 15.6x7.6mm, Pitch 1.27mm, IPC Low Density)
footprint DW0024A_L (SOIC, 24-Leads, Body 15.6x7.6mm, Pitch 1.27mm, IPC High Density)
pins: 1 ~{OE} (in), 2 D0 (in), 3 D1 (in), 4 D2 (in), 5 D3 (in), 6 D4 (in), 7 D5 (in), 8 D6 (in), 9 D7 (in), 10 D8 (in), 11 D9 (in), 12 GND (power), 13 LE (in), 14 Y9 (hiz), 15 Y8 (hiz), 16 Y7 (hiz), 17 Y6 (hiz), 18 Y5 (hiz), 19 Y4 (hiz), 20 Y3 (hiz), 21 Y2 (hiz), 22 Y1 (hiz), 23 Y0 (hiz), 24 VCC (power)

## CY74FCT841BTPC
designator U?
10-Bit Bus-Interface D-Type Latches with 3-State Outputs, NT0024A, TUBE; Generic Part Number: CY74FCT841T; Manufacturer: Texas Instruments; PartNumber: CY74FCT841BTPC; VCC(Min)(V): 4.75; VCC(Max)(V): 5.25; Output Type: CMOS; ICC @ Nom Voltage(Max)(mA): 0.2; Input Type: TTL; Bits(#): 10; F @ Nom Voltage(Max)(Mhz): 70; Rating: Catalog; Technology Family: FCT; Voltage(Nom)(V): 5; Schmitt Trigger: No; Output Drive (IOL/IOH)(Max)(mA): 64/-32; tpd @ Nom Voltage(Max)(ns): 6.5; DatasheetVersion: SCCS035A; PackageReference: NT0024A; Supplier 1: Digi-Key; Supplier Part Number 1: 296-33249-5-ND; Supplier 2: Farnell; Supplier Part Number 2: 1741591; Supplier 3: Newark; Supplier Part Number 3: 74C9102; Supplier 4: Mouser; Supplier Part Number 4: 595-CY74FCT841BTPC; Operating Temperature Range(C): -40 to 85; ComponentLink1Description: Manufacturer URL; ComponentLink1URL: http://www.ti.com/; ComponentLink2Description: Datasheet; ComponentLink2URL: http://www.ti.com/lit/ds/symlink/cy74fct841t.pdf; ComponentLink3Description: Package Specification; ComponentLink3URL: http://www.ti.com/lit/ml/mpdi004a/mpdi004a.pdf
footprint NT0024A (DIP, 24-Leads, Body 32.05x7.1mm, Pitch 2.54mm)
pins: 1 ~{OE} (in), 2 D0 (in), 3 D1 (in), 4 D2 (in), 5 D3 (in), 6 D4 (in), 7 D5 (in), 8 D6 (in), 9 D7 (in), 10 D8 (in), 11 D9 (in), 12 GND (power), 13 LE (in), 14 Y9 (hiz), 15 Y8 (hiz), 16 Y7 (hiz), 17 Y6 (hiz), 18 Y5 (hiz), 19 Y4 (hiz), 20 Y3 (hiz), 21 Y2 (hiz), 22 Y1 (hiz), 23 Y0 (hiz), 24 VCC (power)

## CY74FCT841CTQCT
designator U?
10-Bit Bus-Interface D-Type Latches with 3-State Outputs, DBQ0024A, LARGE T&R; Generic Part Number: CY74FCT841T; Manufacturer: Texas Instruments; PartNumber: CY74FCT841CTQCT; VCC(Min)(V): 4.75; VCC(Max)(V): 5.25; Output Type: CMOS; ICC @ Nom Voltage(Max)(mA): 0.2; Input Type: TTL; Bits(#): 10; F @ Nom Voltage(Max)(Mhz): 70; Rating: Catalog; Technology Family: FCT; Voltage(Nom)(V): 5; Schmitt Trigger: No; Output Drive (IOL/IOH)(Max)(mA): 64/-32; tpd @ Nom Voltage(Max)(ns): 5.5; DatasheetVersion: SCCS035A; PackageReference: DBQ0024A; Supplier 1: Digi-Key; Supplier Part Number 1: 296-23386-2-ND; Supplier 2: Digi-Key; Supplier Part Number 2: 296-23386-1-ND; Supplier 3: Digi-Key; Supplier Part Number 3: 296-23386-6-ND; Supplier 4: Newark; Supplier Part Number 4: 74C9103; Supplier 5: Mouser; Supplier Part Number 5: 595-CY74FCT841CTQCT; Operating Temperature Range(C): -40 to 85; Code_JEDEC: MO-137; ComponentLink1Description: Manufacturer URL; ComponentLink1URL: http://www.ti.com/; ComponentLink2Description: Datasheet; ComponentLink2URL: http://www.ti.com/lit/ds/symlink/cy74fct841t.pdf; ComponentLink3Description: Package Specification; ComponentLink3URL: http://www.ti.com/lit/ml/mpds211a/mpds211a.pdf
footprint DBQ0024A_N (SOP, 24-Leads, Body 8.8x4mm, Pitch 0.635mm, IPC Medium Density)
footprint DBQ0024A_M (SOP, 24-Leads, Body 8.8x4mm, Pitch 0.635mm, IPC Low Density)
footprint DBQ0024A_L (SOP, 24-Leads, Body 8.8x4mm, Pitch 0.635mm, IPC High Density)
pins: 1 ~{OE} (in), 2 D0 (in), 3 D1 (in), 4 D2 (in), 5 D3 (in), 6 D4 (in), 7 D5 (in), 8 D6 (in), 9 D7 (in), 10 D8 (in), 11 D9 (in), 12 GND (power), 13 LE (in), 14 Y9 (hiz), 15 Y8 (hiz), 16 Y7 (hiz), 17 Y6 (hiz), 18 Y5 (hiz), 19 Y4 (hiz), 20 Y3 (hiz), 21 Y2 (hiz), 22 Y1 (hiz), 23 Y0 (hiz), 24 VCC (power)

## CY74FCT841CTSOC
designator U?
10-Bit Bus-Interface D-Type Latches with 3-State Outputs, DW0024A, TUBE; Generic Part Number: CY74FCT841T; Manufacturer: Texas Instruments; PartNumber: CY74FCT841CTSOC; VCC(Min)(V): 4.75; VCC(Max)(V): 5.25; Output Type: CMOS; ICC @ Nom Voltage(Max)(mA): 0.2; Input Type: TTL; Bits(#): 10; F @ Nom Voltage(Max)(Mhz): 70; Rating: Catalog; Technology Family: FCT; Voltage(Nom)(V): 5; Schmitt Trigger: No; Output Drive (IOL/IOH)(Max)(mA): 64/-32; tpd @ Nom Voltage(Max)(ns): 5.5; DatasheetVersion: SCCS035A; PackageReference: DW0024A; Supplier 1: Digi-Key; Supplier Part Number 1: 296-33250-5-ND; Supplier 2: Newark; Supplier Part Number 2: 74C9104; Supplier 3: Mouser; Supplier Part Number 3: 595-CY74FCT841CTSOC; Operating Temperature Range(C): -40 to 85; Code_JEDEC: MS-013; ComponentLink1Description: Manufacturer URL; ComponentLink1URL: http://www.ti.com/; ComponentLink2Description: Datasheet; ComponentLink2URL: http://www.ti.com/lit/ds/symlink/cy74fct841t.pdf; ComponentLink3Description: Package Specification; ComponentLink3URL: http://www.ti.com/lit/ml/mpds174a/mpds174a.pdf
footprint DW0024A_N (SOIC, 24-Leads, Body 15.6x7.6mm, Pitch 1.27mm, IPC Medium Density)
footprint DW0024A_M (SOIC, 24-Leads, Body 15.6x7.6mm, Pitch 1.27mm, IPC Low Density)
footprint DW0024A_L (SOIC, 24-Leads, Body 15.6x7.6mm, Pitch 1.27mm, IPC High Density)
pins: 1 ~{OE} (in), 2 D0 (in), 3 D1 (in), 4 D2 (in), 5 D3 (in), 6 D4 (in), 7 D5 (in), 8 D6 (in), 9 D7 (in), 10 D8 (in), 11 D9 (in), 12 GND (power), 13 LE (in), 14 Y9 (hiz), 15 Y8 (hiz), 16 Y7 (hiz), 17 Y6 (hiz), 18 Y5 (hiz), 19 Y4 (hiz), 20 Y3 (hiz), 21 Y2 (hiz), 22 Y1 (hiz), 23 Y0 (hiz), 24 VCC (power)

## CY74FCT841CTSOCT
designator U?
10-Bit Bus-Interface D-Type Latches with 3-State Outputs, DW0024A, LARGE T&R; Generic Part Number: CY74FCT841T; Manufacturer: Texas Instruments; PartNumber: CY74FCT841CTSOCT; VCC(Min)(V): 4.75; VCC(Max)(V): 5.25; Output Type: CMOS; ICC @ Nom Voltage(Max)(mA): 0.2; Input Type: TTL; Bits(#): 10; F @ Nom Voltage(Max)(Mhz): 70; Rating: Catalog; Technology Family: FCT; Voltage(Nom)(V): 5; Schmitt Trigger: No; Output Drive (IOL/IOH)(Max)(mA): 64/-32; tpd @ Nom Voltage(Max)(ns): 5.5; DatasheetVersion: SCCS035A; PackageReference: DW0024A; Supplier 1: Digi-Key; Supplier Part Number 1: 296-29410-2-ND; Supplier 2: Digi-Key; Supplier Part Number 2: 296-29410-1-ND; Supplier 3: Digi-Key; Supplier Part Number 3: 296-29410-6-ND; Supplier 4: Newark; Supplier Part Number 4: 74C9105; Supplier 5: Mouser; Supplier Part Number 5: 595-CY74FCT841CTSOCT; Operating Temperature Range(C): -40 to 85; Code_JEDEC: MS-013; ComponentLink1Description: Manufacturer URL; ComponentLink1URL: http://www.ti.com/; ComponentLink2Description: Datasheet; ComponentLink2URL: http://www.ti.com/lit/ds/symlink/cy74fct841t.pdf; ComponentLink3Description: Package Specification; ComponentLink3URL: http://www.ti.com/lit/ml/mpds174a/mpds174a.pdf
footprint DW0024A_N (SOIC, 24-Leads, Body 15.6x7.6mm, Pitch 1.27mm, IPC Medium Density)
footprint DW0024A_M (SOIC, 24-Leads, Body 15.6x7.6mm, Pitch 1.27mm, IPC Low Density)
footprint DW0024A_L (SOIC, 24-Leads, Body 15.6x7.6mm, Pitch 1.27mm, IPC High Density)
pins: 1 ~{OE} (in), 2 D0 (in), 3 D1 (in), 4 D2 (in), 5 D3 (in), 6 D4 (in), 7 D5 (in), 8 D6 (in), 9 D7 (in), 10 D8 (in), 11 D9 (in), 12 GND (power), 13 LE (in), 14 Y9 (hiz), 15 Y8 (hiz), 16 Y7 (hiz), 17 Y6 (hiz), 18 Y5 (hiz), 19 Y4 (hiz), 20 Y3 (hiz), 21 Y2 (hiz), 22 Y1 (hiz), 23 Y0 (hiz), 24 VCC (power)

## CY74FCT2373CTSOC
designator U?
Octal D-Type Transparent Latches with 3-State Outputs and Series Damping Resistors, DW0020A, TUBE; Generic Part Number: CY74FCT2373T; Manufacturer: Texas Instruments; PartNumber: CY74FCT2373CTSOC; VCC(Min)(V): 4.75; VCC(Max)(V): 5.25; Output Type: CMOS; ICC @ Nom Voltage(Max)(mA): 0.2; Input Type: TTL; Bits(#): 8; F @ Nom Voltage(Max)(Mhz): 70; Rating: Catalog; Technology Family: FCT; Voltage(Nom)(V): 5; Schmitt Trigger: No; Output Drive (IOL/IOH)(Max)(mA): 12/-15; tpd @ Nom Voltage(Max)(ns): 4.7; DatasheetVersion: SCCS039B; PackageReference: DW0020A; Supplier 1: Digi-Key; Supplier Part Number 1: 296-12975-5-ND; Supplier 2: Mouser; Supplier Part Number 2: 595-CY74FCT2373CTSOC; Operating Temperature Range(C): -40 to 85; Code_JEDEC: MS-013; ComponentLink1Description: Manufacturer URL; ComponentLink1URL: http://www.ti.com/; ComponentLink2Description: Datasheet; ComponentLink2URL: http://www.ti.com/lit/ds/symlink/cy74fct2373t.pdf; ComponentLink3Description: Package Specification; ComponentLink3URL: http://www.ti.com/lit/ml/mpds173a/mpds173a.pdf
footprint DW0020A_N (SOIC, 20-Leads, Body 13x7.6mm, Pitch 1.27mm, IPC Medium Density)
footprint DW0020A_M (SOIC, 20-Leads, Body 13x7.6mm, Pitch 1.27mm, IPC Low Density)
footprint DW0020A_L (SOIC, 20-Leads, Body 13x7.6mm, Pitch 1.27mm, IPC High Density)
pins: 1 ~{OE} (in), 2 O0 (hiz), 3 D0 (in), 4 D1 (in), 5 O1 (hiz), 6 O2 (hiz), 7 D2 (in), 8 D3 (in), 9 O3 (hiz), 10 GND (power), 11 LE (in), 12 O4 (hiz), 13 D4 (in), 14 D5 (in), 15 O5 (hiz), 16 O6 (hiz), 17 D6 (in), 18 D7 (in), 19 O7 (hiz), 20 VCC (power)

## CY74FCT2573ATQCT
designator U?
Octal D-Type Transparent Latches with 3-State Outputs and Series Damping Resistors, DBQ0020A, LARGE T&R; Generic Part Number: CY74FCT2573T; Manufacturer: Texas Instruments; PartNumber: CY74FCT2573ATQCT; VCC(Min)(V): 4.75; VCC(Max)(V): 5.25; Output Type: CMOS; ICC @ Nom Voltage(Max)(mA): 0.2; Input Type: TTL; Bits(#): 8; F @ Nom Voltage(Max)(Mhz): 70; Rating: Catalog; Technology Family: FCT; Voltage(Nom)(V): 5; Schmitt Trigger: No; Output Drive (IOL/IOH)(Max)(mA): 12/-15; tpd @ Nom Voltage(Max)(ns): 5.2; DatasheetVersion: SCCS075; PackageReference: DBQ0020A; Supplier 1: Digi-Key; Supplier Part Number 1: 296-23215-2-ND; Supplier 2: Digi-Key; Supplier Part Number 2: 296-23215-1-ND; Supplier 3: Digi-Key; Supplier Part Number 3: 296-23215-6-ND; Supplier 4: Newark; Supplier Part Number 4: 74C8960; Supplier 5: Mouser; Supplier Part Number 5: 595-CY74FCT2573ATQCT; Operating Temperature Range(C): -40 to 85; Code_JEDEC: MO-137; ComponentLink1Description: Manufacturer URL; ComponentLink1URL: http://www.ti.com/; ComponentLink2Description: Datasheet; ComponentLink2URL: http://www.ti.com/lit/ds/symlink/cy74fct2573t.pdf; ComponentLink3Description: Package Specification; ComponentLink3URL: http://www.ti.com/lit/ml/mpds210a/mpds210a.pdf
footprint DBQ0020A_N (SOP, 20-Leads, Body 8.8x4mm, Pitch 0.635mm, IPC Medium Density)
footprint DBQ0020A_M (SOP, 20-Leads, Body 8.8x4mm, Pitch 0.635mm, IPC Low Density)
footprint DBQ0020A_L (SOP, 20-Leads, Body 8.8x4mm, Pitch 0.635mm, IPC High Density)
pins: 1 ~{OE} (in), 2 D0 (in), 3 D1 (in), 4 D2 (in), 5 D3 (in), 6 D4 (in), 7 D5 (in), 8 D6 (in), 9 D7 (in), 10 GND (power), 11 LE (in), 12 O7 (hiz), 13 O6 (hiz), 14 O5 (hiz), 15 O4 (hiz), 16 O3 (hiz), 17 O2 (hiz), 18 O1 (hiz), 19 O0 (hiz), 20 VCC (power)

## CY74FCT2573CTQCT
designator U?
Octal D-Type Transparent Latches with 3-State Outputs and Series Damping Resistors, DBQ0020A, LARGE T&R; Generic Part Number: CY74FCT2573T; Manufacturer: Texas Instruments; PartNumber: CY74FCT2573CTQCT; VCC(Min)(V): 4.75; VCC(Max)(V): 5.25; Output Type: CMOS; ICC @ Nom Voltage(Max)(mA): 0.2; Input Type: TTL; Bits(#): 8; F @ Nom Voltage(Max)(Mhz): 70; Rating: Catalog; Technology Family: FCT; Voltage(Nom)(V): 5; Schmitt Trigger: No; Output Drive (IOL/IOH)(Max)(mA): 12/-15; tpd @ Nom Voltage(Max)(ns): 4.7; DatasheetVersion: SCCS075; PackageReference: DBQ0020A; Supplier 1: Digi-Key; Supplier Part Number 1: 296-28595-2-ND; Supplier 2: Digi-Key; Supplier Part Number 2: 296-28595-1-ND; Supplier 3: Digi-Key; Supplier Part Number 3: 296-28595-6-ND; Supplier 4: Mouser; Supplier Part Number 4: 595-CY74FCT2573CTQCT; Operating Temperature Range(C): -40 to 85; Code_JEDEC: MO-137; ComponentLink1Description: Manufacturer URL; ComponentLink1URL: http://www.ti.com/; ComponentLink2Description: Datasheet; ComponentLink2URL: http://www.ti.com/lit/ds/symlink/cy74fct2573t.pdf; ComponentLink3Description: Package Specification; ComponentLink3URL: http://www.ti.com/lit/ml/mpds210a/mpds210a.pdf
footprint DBQ0020A_N (SOP, 20-Leads, Body 8.8x4mm, Pitch 0.635mm, IPC Medium Density)
footprint DBQ0020A_M (SOP, 20-Leads, Body 8.8x4mm, Pitch 0.635mm, IPC Low Density)
footprint DBQ0020A_L (SOP, 20-Leads, Body 8.8x4mm, Pitch 0.635mm, IPC High Density)
pins: 1 ~{OE} (in), 2 D0 (in), 3 D1 (in), 4 D2 (in), 5 D3 (in), 6 D4 (in), 7 D5 (in), 8 D6 (in), 9 D7 (in), 10 GND (power), 11 LE (in), 12 O7 (hiz), 13 O6 (hiz), 14 O5 (hiz), 15 O4 (hiz), 16 O3 (hiz), 17 O2 (hiz), 18 O1 (hiz), 19 O0 (hiz), 20 VCC (power)

## CY74FCT2573CTSOC
designator U?
Octal D-Type Transparent Latches with 3-State Outputs and Series Damping Resistors, DW0020A, TUBE; Generic Part Number: CY74FCT2573T; Manufacturer: Texas Instruments; PartNumber: CY74FCT2573CTSOC; VCC(Min)(V): 4.75; VCC(Max)(V): 5.25; Output Type: CMOS; ICC @ Nom Voltage(Max)(mA): 0.2; Input Type: TTL; Bits(#): 8; F @ Nom Voltage(Max)(Mhz): 70; Rating: Catalog; Technology Family: FCT; Voltage(Nom)(V): 5; Schmitt Trigger: No; Output Drive (IOL/IOH)(Max)(mA): 12/-15; tpd @ Nom Voltage(Max)(ns): 4.7; DatasheetVersion: SCCS075; PackageReference: DW0020A; Supplier 1: Digi-Key; Supplier Part Number 1: 296-33224-5-ND; Supplier 2: Farnell; Supplier Part Number 2: 1740872; Supplier 3: Mouser; Supplier Part Number 3: 595-CY74FCT2573CTSOC; Operating Temperature Range(C): -40 to 85; Code_JEDEC: MS-013; ComponentLink1Description: Manufacturer URL; ComponentLink1URL: http://www.ti.com/; ComponentLink2Description: Datasheet; ComponentLink2URL: http://www.ti.com/lit/ds/symlink/cy74fct2573t.pdf; ComponentLink3Description: Package Specification; ComponentLink3URL: http://www.ti.com/lit/ml/mpds173a/mpds173a.pdf
footprint DW0020A_N (SOIC, 20-Leads, Body 13x7.6mm, Pitch 1.27mm, IPC Medium Density)
footprint DW0020A_M (SOIC, 20-Leads, Body 13x7.6mm, Pitch 1.27mm, IPC Low Density)
footprint DW0020A_L (SOIC, 20-Leads, Body 13x7.6mm, Pitch 1.27mm, IPC High Density)
pins: 1 ~{OE} (in), 2 D0 (in), 3 D1 (in), 4 D2 (in), 5 D3 (in), 6 D4 (in), 7 D5 (in), 8 D6 (in), 9 D7 (in), 10 GND (power), 11 LE (in), 12 O7 (hiz), 13 O6 (hiz), 14 O5 (hiz), 15 O4 (hiz), 16 O3 (hiz), 17 O2 (hiz), 18 O1 (hiz), 19 O0 (hiz), 20 VCC (power)

## CY74FCT2573CTSOCT
designator U?
Octal D-Type Transparent Latches with 3-State Outputs and Series Damping Resistors, DW0020A, LARGE T&R; Generic Part Number: CY74FCT2573T; Manufacturer: Texas Instruments; PartNumber: CY74FCT2573CTSOCT; VCC(Min)(V): 4.75; VCC(Max)(V): 5.25; Output Type: CMOS; ICC @ Nom Voltage(Max)(mA): 0.2; Input Type: TTL; Bits(#): 8; F @ Nom Voltage(Max)(Mhz): 70; Rating: Catalog; Technology Family: FCT; Voltage(Nom)(V): 5; Schmitt Trigger: No; Output Drive (IOL/IOH)(Max)(mA): 12/-15; tpd @ Nom Voltage(Max)(ns): 4.7; DatasheetVersion: SCCS075; PackageReference: DW0020A; Supplier 1: Digi-Key; Supplier Part Number 1: CY74FCT2573CTSOCT-ND; Supplier 2: Mouser; Supplier Part Number 2: 595-Y74FCT2573CTSOCT; Operating Temperature Range(C): -40 to 85; Code_JEDEC: MS-013; ComponentLink1Description: Manufacturer URL; ComponentLink1URL: http://www.ti.com/; ComponentLink2Description: Datasheet; ComponentLink2URL: http://www.ti.com/lit/ds/symlink/cy74fct2573t.pdf; ComponentLink3Description: Package Specification; ComponentLink3URL: http://www.ti.com/lit/ml/mpds173a/mpds173a.pdf
footprint DW0020A_N (SOIC, 20-Leads, Body 13x7.6mm, Pitch 1.27mm, IPC Medium Density)
footprint DW0020A_M (SOIC, 20-Leads, Body 13x7.6mm, Pitch 1.27mm, IPC Low Density)
footprint DW0020A_L (SOIC, 20-Leads, Body 13x7.6mm, Pitch 1.27mm, IPC High Density)
pins: 1 ~{OE} (in), 2 D0 (in), 3 D1 (in), 4 D2 (in), 5 D3 (in), 6 D4 (in), 7 D5 (in), 8 D6 (in), 9 D7 (in), 10 GND (power), 11 LE (in), 12 O7 (hiz), 13 O6 (hiz), 14 O5 (hiz), 15 O4 (hiz), 16 O3 (hiz), 17 O2 (hiz), 18 O1 (hiz), 19 O0 (hiz), 20 VCC (power)